# EAGLE library part TEENSY4_0 (library ct-bot)
Footprint for Teensy 4.0
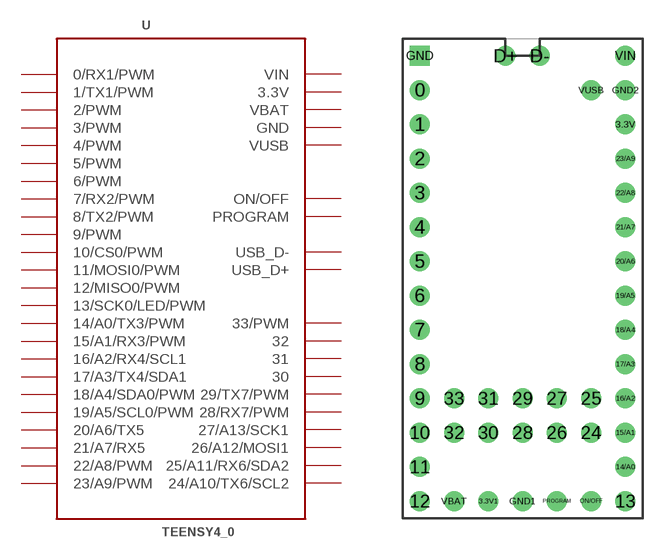
[diagram p24: symbol with the pads of TEENSY_4.0; footprint TEENSY_4.0]

Designator prefix -

## TEENSY4_0  [TEENSY_4.0]
0  0/RX1/PWM
1  1/TX1/PWM
2  2/PWM
3  3/PWM
3.3V1  3.3V  pwr
4  4/PWM
5  5/PWM
6  6/PWM
7  7/RX2/PWM
8  8/TX2/PWM
9  9/PWM
10  10/CS0/PWM
11  11/MOSI0/PWM
12  12/MISO0/PWM
13  13/SCK0/LED/PWM
14/A0  14/A0/TX3/PWM
15/A1  15/A1/RX3/PWM
16/A2  16/A2/RX4/SCL1
17/A3  17/A3/TX4/SDA1
18/A4  18/A4/SDA0/PWM
19/A5  19/A5/SCL0/PWM
20/A6  20/A6/TX5
21/A7  21/A7/RX5
22/A8  22/A8/PWM
23/A9  23/A9/PWM
24  24/A10/TX6/SCL2
25  25/A11/RX6/SDA2
26  26/A12/MOSI1
27  27/A13/SCK1
28  28/RX7/PWM
29  29/TX7/PWM
30  30
31  31
32  32
33  33/PWM
D+  USB_D+  out
D-  USB_D-  out
GND  GND  pwr
GND1  GND  pwr
GND2  GND  pwr
ON/OFF  ON/OFF  in
PROGRAM  PROGRAM  in
VBAT  VBAT  pwr
VIN  VIN  pwr
VUSB  VUSB  pwr

## Footprint TEENSY_4.0 (pad centres in mm)
drill 0.965: 0 -7.62,13.97; 1 -7.62,11.43; 2 -7.62,8.89; 3 -7.62,6.35; 3.3V 7.62,11.43; 3.3V1 -2.54,-16.51; 4 -7.62,3.81; 5 -7.62,1.27; 6 -7.62,-1.27; 7 -7.62,-3.81; 8 -7.62,-6.35; 9 -7.62,-8.89; 10 -7.62,-11.43; 11 -7.62,-13.97; 12 -7.62,-16.51; 13 7.62,-16.51; 14/A0 7.62,-13.97; 15/A1 7.62,-11.43; 16/A2 7.62,-8.89; 17/A3 7.62,-6.35; 18/A4 7.62,-3.81; 19/A5 7.62,-1.27; 20/A6 7.62,1.27; 21/A7 7.62,3.81; 22/A8 7.62,6.35; 23/A9 7.62,8.89; 24 5.08,-11.43; 25 5.08,-8.89; 26 2.54,-11.43; 27 2.54,-8.89; 28 0,-11.43; 29 0,-8.89; 30 -2.54,-11.43; 31 -2.54,-8.89; 32 -5.08,-11.43; 33 -5.08,-8.89; D+ -1.27,16.51; D- 1.27,16.51; GND1 0,-16.51; GND2 7.62,13.97; ON/OFF 5.08,-16.51; PROGRAM 2.54,-16.51; VBAT -5.08,-16.51; VIN 7.62,16.51; VUSB 5.08,13.97
drill 0.965 square: GND -7.62,16.51